# Altium schematic symbol library TXS0108EPWR.Schlib: 1 symbol
Pins are listed as number, name and electrical type; pins without a type are passive.

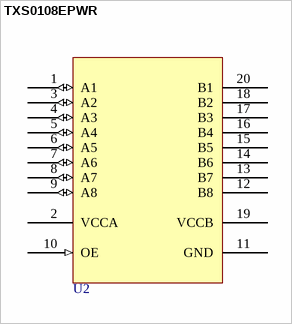
[diagram p0: symbol TXS0108EPWR]

## TXS0108EPWR
designator U2
8-Bit Bidirectional Voltage-Level Translator with Auto-Direction Sensing
pins: 1 A1 (io), 2 VCCA (power), 3 A2 (io), 4 A3 (io), 5 A4 (io), 6 A5 (io), 7 A6 (io), 8 A7 (io), 9 A8 (io), 10 OE (in), 11 GND (power), 12 B8 (power), 13 B7 (power), 14 B6 (power), 15 B5 (power), 16 B4 (power), 17 B3 (power), 18 B2 (power), 19 VCCB (power), 20 B1 (power)